# Altium integrated library MC Alarm.IntLib: 25 symbols
Pins are listed as number, name and electrical type; pins without a type are passive.

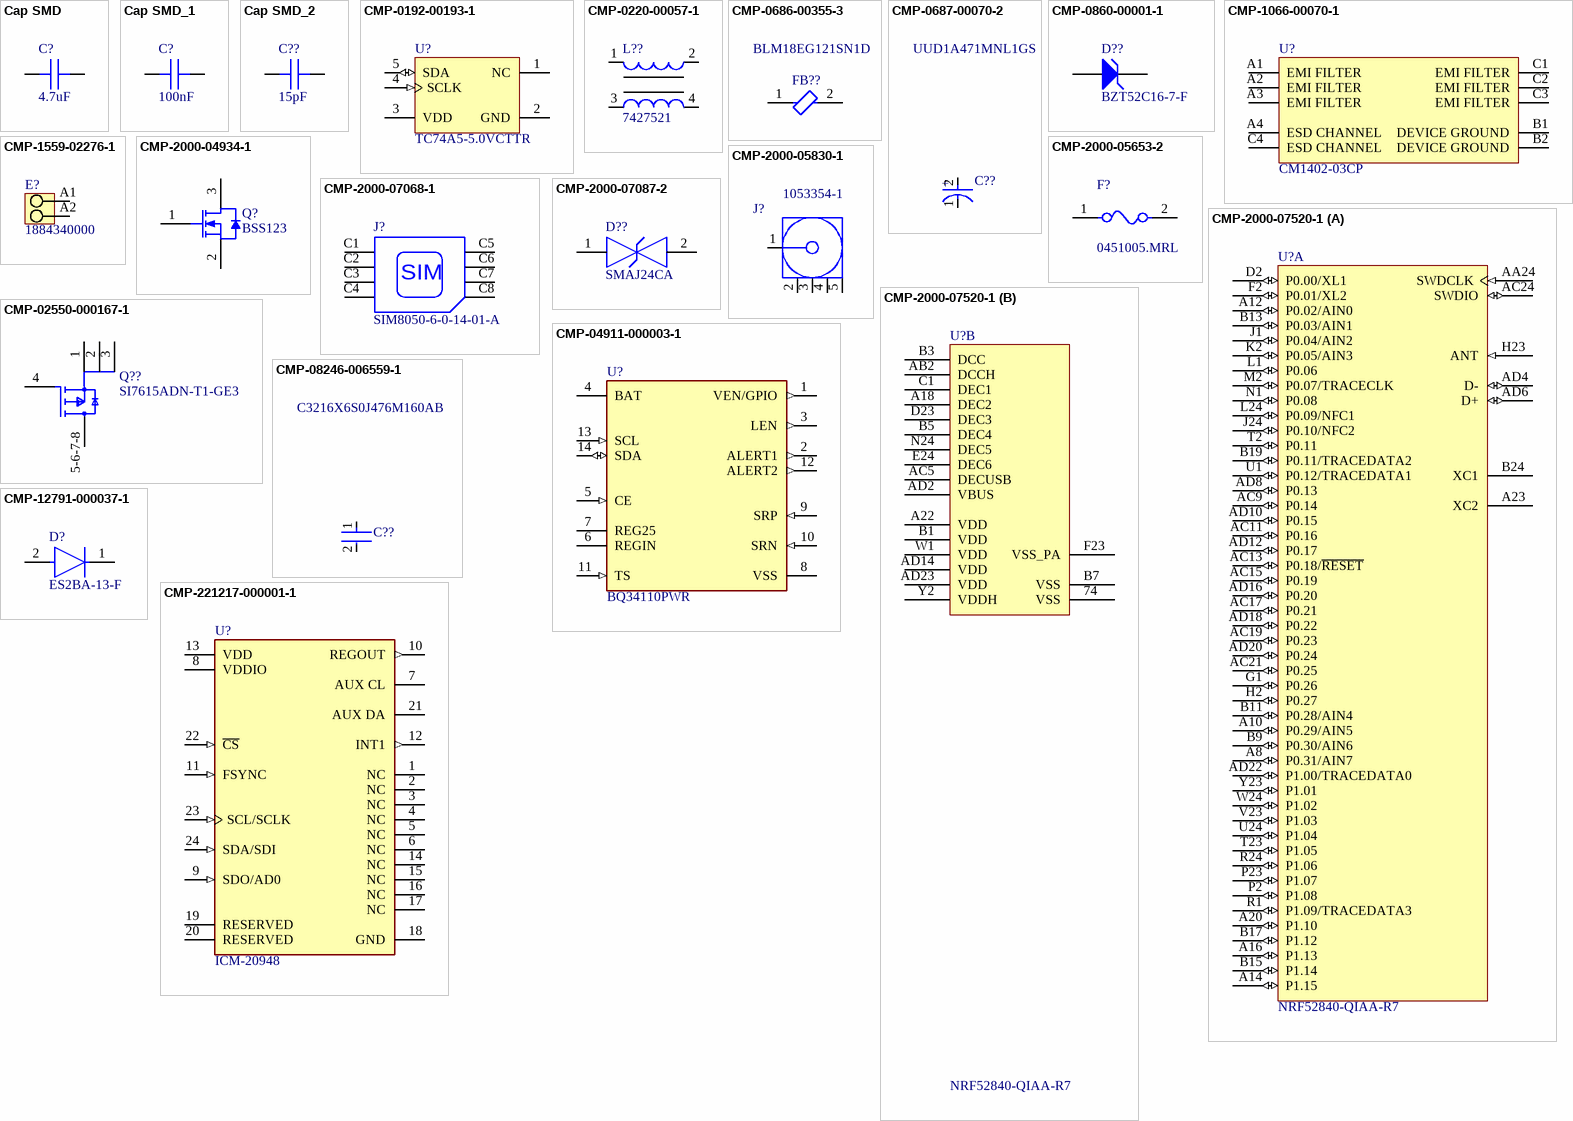
[diagram p0: symbols Cap SMD to CMP-221217-000001-1]

## Cap SMD
designator C?  value 4.7uF  (hidden comment: Cap SMD)
footprint C0603 (1608) (Chip Capacitor, 2-Leads, Body 1,60x0,81mm, IPC Low Density)
pins: 1 (power) "Output", 2 (power) "Output"

## Cap SMD_1
designator C?, comment 100nF
Value: 100nF
footprint C0603 (1608) (Chip Capacitor, 2-Leads, Body 1,60x0,81mm, IPC Low Density)
pins: 1 (power) "Output", 2 (power) "Output"

## Cap SMD_2
designator C??, comment 15pF
Value: 15pF
footprint C0603 (1608) (Chip Capacitor, 2-Leads, Body 1,60x0,81mm, IPC Low Density)
pins: 1 (power) "Output", 2 (power) "Output"

## CMP-0192-00193-1
designator U?, comment TC74A5-5.0VCTTR
Tiny Serial Digital Thermal Sensor, 5-Pin SOT-23, Extended Temperature, Tape and Reel; Manufacturer: Microchip; PackageDescription: 5-Lead Plastic Small Outline Transistor (CT) [SOT-23]; PackageReference: SOT-23-CT5; PackageVersion: revBB, Aug-2009; Code_IPC: SOT23-5; DatasheetVersion: revC, Oct-2002; Manufacturer Part Number: TC74A5-5.0VCTTR
footprint SOT-23-CT5_N (SOT23, 5-Leads, Body 2.9x1.6mm, Pitch 0.95mm, Lead Span 2.7mm, IPC Medium Density)
footprint SOT-23-CT5_L (SOT23, 5-Leads, Body 2.9x1.6mm, Pitch 0.95mm, Lead Span 2.7mm, IPC High Density)
footprint SOT-23-CT5_M (SOT23, 5-Leads, Body 2.9x1.6mm, Pitch 0.95mm, Lead Span 2.7mm, IPC Low Density)
pins: 1 NC, 2 GND (power), 3 VDD (power), 4 SCLK (in), 5 SDA (io)

## CMP-0220-00057-1
designator L??, comment 7427521
Common Mode SMD Bead WE-CMS, Z = 52 Ohm; Manufacturer: Wurth Electronics; Impedance: 52 Ohm; PackageReference: WE-CMS; PackageVersion: 2010; ComponentLink1URL: http://www.we-online.com; PackageDescription: Inductor, 4-Leads, Body 8.5 x 5.6 mm; ComponentLink2Description: Datasheet; ComponentLink2URL: http://www.we-online.de/katalog/media/pdf/7427521.pdf; DatasheetVersion: ver 8, Jul-2010; ComponentLink1Description: Manufacturer Link; Manufacturer Part Number: 7427521
footprint WE-CMS (Inductor, 4-Leads, Body 8.5x5.6x3.2 mm)
pins: 1, 2, 3, 4

## CMP-0686-00355-3
designator FB??, comment BLM18EG121SN1D
FERRITE BEAD 120 OHM 0603 1LN; Manufacturer: Murata; Tolerance: 25%; Rms Current: 2000mA; Impedance At Frequency: 120Ω @ 100MHz; Series Resistance: 0.06Ω; Manufacturer Part Number: BLM18EG121SN1D; Lead Free: Yes; RoHS: TRUE; ComponentLink2URL: https://www.murata.com/en-us/products/productdata/8796747366430/ENFA0021.pdf; Octopart: https://octopart.com/blm18eg121sn1d-murata-368362; Core Material: Ferrite; Device Class L1: Passive Components; Device Class L3: Ferrite Beads and Chips; Mouser Description: Ferrite Beads 120ohms GHz General Usage; Digikey Description: FERRITE BEAD 120 OHM 0603 1LN; ComponentLink2Description: Datasheet; Package: 0603; Category: FBead; Height: 0.95mm; Temperature Range Low: -55°C; Temperature Range High: +125°C; Automotive: No; Device Class L2: EMI / RFI Components; Temperature: -55°C to +125°C; Ipc Land Pattern Name: CAPC16080X80
footprint FP-BLM18EG121SN1D-MFG
footprint FP-BLM18EG121SN1D-IPC_C
footprint FP-BLM18EG121SN1D-IPC_B
footprint FP-BLM18EG121SN1D-IPC_A
pins: 1, 2

## CMP-0687-00070-2
designator C??, comment UUD1A471MNL1GS
CAP ALUM 470UF 20% 10V SMD; Manufacturer: Nichicon; Leakage Current: 3uA; Lead Diameter: 1.1mm; Ripple Current: 450mA; Dissipation Factor: 0.24%; Life (Hours): 5000Hour; Dielectric Material: Aluminium; Impedance: 170mR; Voltage Rating: 10V; Height - Seated (Max): 0.394inch; Packaging: Tape and Reel; Voltage Rating (DC): 10V; Package Quantity: 500; Radiation Hardening: No; Capacitance: 470uF; Min Operating Temperature: -55°C; Max Operating Temperature: 105°C; REACH SVHC: No SVHC; Tolerance: 20%; Termination: SMD/SMT; Lead Free: Lead Free; Diameter: 8mm; Case/Package: Radial; Length: 10mm; Voltage: 10V; Ripple Current (AC): 450mA; Height: 10mm; Lead Pitch: 3.1mm; Number of Pins: 2; Manufacturer Part Number: UUD1A471MNL1GS
footprint FP-UUD1A471MNL1GS-MFG
pins: 1 C, 2 A
text: +

## CMP-0860-00001-1
designator D??, comment BZT52C16-7-F
Surface Mount Zener Diode, 16 V, -65 to 125 degC, SOD123, RoHS, Tape and Reel; Manufacturer: Diodes Inc; Manufacturer: Diodes; Maximum Reverse Current: 0.1 uA; Tol V: 5.56% Typ.; Maximum Zener Impedance f: 1 kHz ZZK=200 Ohm; Voltage Zener: 16 V Typ.; Power Max: 500 mW; ComponentLink2URL: http://www.diodes.com/datasheets/ds18004.pdf; PackageDescription: 2-Pin SOD123, Body 2.7 x 1.55 mm, Height 1.45 mm; ComponentLink3Description: Package Specification; Mounting Technology: Surface Mount; PackageReference: SOD123; ComponentLink2Description: Datasheet; RoHS: TRUE; ComponentLink3URL: http://www.diodes.com/datasheets/ap02002.pdf; Operating Temperature: -65 to 150 degC; DatasheetVersion: Rev. 37-2; Packing: Tape and Reel; ComponentLink1Description: Manufacturer URL; ComponentLink1URL: http://www.diodes.com/; PackageVersion: Rev. 79; PartNumber: BZT52C16-7-F; Manufacturer Part Number: BZT52C16-7-F
footprint DIOD-SOD123-2_V (SOD123, 2-Leads, Body 2.7x1.55mm, Height 1.45mm)
pins: 1 A, 2 K

## CMP-1066-00070-1
designator U?, comment CM1402-03CP
SIM Card EMI Filter Array with ESD Protection, -40 to 85 degC, 10-Pin WLCSP, Pb-Free, Tape and Reel; Manufacturer: On Semiconductor; C Typ (pF): 20; Number of Lines: 4; ComponentLink3Description: Package Specification; PackageDescription: 10-Ball Wafer Level Chip Scale Package, Body 1.96 x 1.33 mm; PartNumber: CM1402-03CP; ComponentLink1URL: http://www.onsemi.com/; PackageReference: WLCSP-10-567BL-01; ComponentLink1Description: Manufacturer URL; RoHS: Pb-Free; Mounting Technology: Surface Mount; ComponentLink3URL: http://www.onsemi.com/pub_link/Collateral/567BL.PDF; ComponentLink2URL: http://www.onsemi.com/pub_link/Collateral/CM1402-D.PDF; PackageVersion: Rev. O, 07/2010; Packing: Tape and Reel; DatasheetVersion: Rev. 4; ComponentLink2Description: Datasheet; Manufacturer: ON Semiconductor; Manufacturer Part Number: CM1402-03CP
footprint ONSC-WLCSP-10-567BL-01 (BGA, 10-Balls, Body 1.96x1.33mm)
pins: A1 EMI FILTER "EMI Filter with ESD Protection for RST Signal", A2 EMI FILTER "EMI Filter with ESD Protection for CLK Signal", A3 EMI FILTER "EMI Filter with ESD Protection for DAT Signal", A4 ESD CHANNEL (power) "ESD Protection Channel - VCC Supply", B1 DEVICE GROUND (power) "Device Ground", B2 DEVICE GROUND (power) "Device Ground", C1 EMI FILTER "EMI Filter with ESD Protection for RST Signal", C2 EMI FILTER "EMI Filter with ESD Protection for CLK Signal", C3 EMI FILTER "EMI Filter with ESD Protection for DAT Signal", C4 ESD CHANNEL "ESD Protection Channel"

## CMP-1559-02276-1
designator E?, comment 1884340000
OMNIMATE Signal - series LSF; Manufacturer: Weidmueller; Manufacturer: Weidmuller; Rated_voltage_for_surge_voltage_class_pollution_degree_II_2: 500 V; Pitch_mm: 5 mm; Wire_cross_section_AWG_min_UL_1059: AWG 24; Insulating_material: LCP GF; Rated_voltage_use_group_B_UL_1059: 300 V; Rated_current_use_group_B_UL_1059: 12 A; Mounting_onto_the_PCB: Reflow solder connection; Contact_material: Cu-Leg; Short_text_for_material: LSF-SMT 5.00/02/135 3.5SN BK TU; No_of_poles: 2; UL_94_flammability_rating: V-0; Solid_min_H05_07_V_U: 0,2 mm²; Contact_surface: tinned; Side_termination_characteristic: closed side; Wire_cross_section_AWG_max_UL_1059: AWG 16; Solder_pin_length_mm: 3,5 mm; Pitch_inch: 0,197 inch; Solid_max_H05_07_V_U: 1,5 mm²; Rated_current_min_no_of_poles_TU_20_deg_C: 19 A; Packaging: Tube; ComponentLink1URL: http://www.weidmueller.com/; ComponentLink2URL: http://catalog.weidmueller.com/catalog/Start.do?localeId=en&ObjectID=1884340000; PackageReference: LSF_SMT_5_00_135_02; PartNumber: 1884340000; ComponentLink1Description: Manufacturer URL; Qty: 60 PCS; Colour: Black; Revision: V1; ComponentLink2Description: URL Link1; Manufacturer Part Number: 1884340000
footprint LSF_SMT_5_00_135_02 (OMNIMATE Signal - Serie LSF  LSF-SMT 5.00/02/135 3.5)
pins: A1, A2
1 alternate drawing of the same symbol

## CMP-2000-04934-1
designator Q?, comment BSS123
N-Channel Logic Level Enhancement Mode Field Effect Transistor, 1.7 V, -55 to 150 degC, 3-Pin SOT-23, RoHS, Tape and Reel; Manufacturer: Fairchild; Manufacturer: ON Semiconductor / Fairchild; Channel Type: N; Typical Turn-Off Delay Time: 17ns; Maximum Continuous Drain Current: 0.17A; Rad Hard: No; Typical Rise Time: 9ns; Typical Fall Time: 2.4ns; Maximum Gate Source Voltage: ±20V; Maximum Drain Source Voltage: 100V; Typical Turn-On Delay Time: 1.7ns; RDS-on: 6000@10VmOhm; Package Version: Rev. 12, 03/2016; Packaging: Tape&Reel; Package Reference: SOT23-3; Channel Mode: Enhancement; Operating Temperature: -55to150degC; Package Description: 3-Pin Small Outline Transistor, Body 2.92 x 1.325 mm, Pitch 0.95 mm; Category: MOSFET; Datasheet Version: Jun-03; Datasheet URL: https://www.fairchildsemi.com/datasheets/BS/BSS123.pdf; Manufacturer URL: https://www.fairchildsemi.com/; Mounting: SurfaceMount; Package: 3SOT-23; Package URL: http://www.fairchildsemi.com/dwg/MA/MA03D.pdf; Manufacturer Part Number: BSS123
footprint FAIR-SOT23-3_V (SOT23, 3-Leads, Body 2.92x1.3mm, Pitch 0.95mm)
pins: 1 G, 2 S, 3 D

## CMP-2000-05653-2
designator F?, comment 0451005.MRL
FUSE BRD MNT 5A 125VAC/VDC 2SMD; Manufacturer: Littelfuse Inc; Manufacturer: Littelfuse; Fuse Blow Speed: Fast; Voltage Rating: 125V; Fuse Interrupt Ac Current: 50A; Value: 0.0125Ω; Fuse I2T: 5.566A2Sec; Device Class L3: unset; Temperature Range Low: -55°C; Height: 2.94mm; Category: Fuse; Fuse Current: 5A; Octopart: https://octopart.com/0451005.mrl-littelfuse-566389; Package: 0451; RoHS: TRUE; Manufacturer Part Number: 0451005.MRL; Mouser Description: Surface Mount Fuses 125V 5A; Device Class L2: Fuses; ComponentLink2URL: https://www.littelfuse.com/~/media/electronics/datasheets/fuses/littelfuse_fuse_451_453_datasheet.pdf.pdf; Temperature Range High: +125°C; Digikey Description: FUSE BRD MNT 5A 125VAC/VDC 2SMD; Device Class L1: Circuit Protection; Automotive: No; Fuse Interrupt Dc Current: 50A; Temperature: -55°C to +125°C; Max Fuse Dc Voltage: 125V; Resistance: 0.0125Ω; ComponentLink2Description: Datasheet; Max Fuse Ac Voltage: 125V; Lead Free: Yes
footprint FP-0451-MFG
pins: 1, 2

## CMP-2000-05830-1
designator J?, comment 1053354-1
Female Coaxial Connector, Pitch 2.55 mm, Height 9.5 mm, Tail Length 3.9 mm, RoHS, Bulk; Manufacturer: TE Connectivity; Dynamic Catalog: SMA; Impedance: 50Ohm; Contact Termination: Solder; Connector Type: Jack,FemaleSockets; 3D Model: 1053354-1.pdf; Other Names: 2062000000 / A30046; Datasheet Version: Rev. B, 05/2011; Package Reference: 1053354-1; RoHS Information: 1053354-1StatementofCompliance; Series: SMA; Connector Style: SMA; Family: CoaxialConnectors(RF); Category: Connectors,Interconnects; Fastening Type: Threaded; Standard Package: 125; Mounting Type: ThroughHole; Packaging: Bulk; Datasheet URL: http://www.te.com/commerce/DocumentDelivery/DDEController?Action=srchrtrv&DocNm=1053354&DocType=Customer+Drawing&DocLang=English; Mounting Technology: ThroughHole; Manufacturer URL: http://www.te.com/; Package Description: Female Coaxial Connector, Pitch 2.55 mm, Height 9.5 mm, Tail Length 3.9 mm; Manufacturer Part Number: 1053354-1
footprint TECO-1053354-1_V (THD, 5-Leads, Body 6.3x6.3mm, Pitch 2.55mm)
pins: 1, 2, 3, 4, 5

## CMP-2000-07068-1
designator J?, comment SIM8050-6-0-14-01-A
Nano SIM Card Connect Push-Pull Type, Profile Height 1.35 mm, 30 V Max, 0.5 A Max, -40 to 85 degC, 6-Pin SMT, RoHS, Tape and Reel; Manufacturer: Global Connector Technology; Pitch: 1.45mm; No of Positions: 6; Style/Orientation: Receptacle; Package Description: 6-Pin Surface Mount Device, Body 12.2 x 9.54 mm, Pitch 2.54 mm; Manufacturer URL: http://gct.co/; Datasheet Version: Rev. E, 09/2015; Datasheet URL: http://gct.co/sim-connectors/pdf/SIM8050.pdf; Type: Contact; Mounting Technology: SurfaceMount; Termination: PushPull; Package Reference: SIM8050-6-0-14-01-A; Manufacturer Part Number: SIM8050-6-0-14-01-A
footprint GCT-SIM8050-6_V (SMT, 6-Leads, Body 12.2x9.54mm, Pitch 2.54mm)
pins: C1 VCC (power), C2 RST, C3 CLK, C4 SHLD, C5 GND (power), C6 VPP (power), C7 I/O, C8 SHLD
text: SIM

## CMP-2000-07087-2
designator D??, comment SMAJ24CA
TVS DIODE 24V 38.9V DO214AC; Manufacturer: Littelfuse; Peak Pulse Power: 400W; Direction: Bidirectional; Breakdown Voltage: 26.7V; Max Junction Temp: +150°C; Number Of Channels: 1; Peak Pulse Current: 10.3A; Digikey Description: TVS DIODE 24V 38.9V DO214AC; Temperature Range Low: -65°C; Temperature: -65°C to +150°C; Manufacturer Part Number: SMAJ24CA; Octopart: https://octopart.com/smaj24ca-littelfuse-350011; Height: 2.29mm; Clamping Voltage: 38.9V; Device Class L1: Circuit Protection; Automotive: No; Device Class L2: TVS Diodes; Package: SMAJ-CA; ComponentLink2URL: https://www.littelfuse.com/~/media/electronics/datasheets/tvs_diodes/littelfuse_tvs_diode_smaj_datasheet.pdf.pdf; RoHS: TRUE; Temperature Range High: +150°C; Category: Diode; Lead Free: Yes; Reverse Standoff Voltage: 24V; Device Class L3: unset; ComponentLink2Description: Datasheet; Mouser Description: In a Pack of 25, Littelfuse SMAJ24CA, Bi-Directional TVS Diode, 400W, 2-Pin DO-214AC
footprint FP-SMAJ-CA-MFG
pins: 1, 2

## CMP-2000-07520-1
designator U?, comment NRF52840-QIAA-R7
RF System on a Chip, 1.7 to 3.6 V, -40 to 85 degC, 73-Pin AQFN, RoHS, Tape and Reel; Manufacturer: Nordic Semiconductor; Package Description: 73-Pin Array Quad Flat No-lead Package, Body 7 x 7 mm, Pitch 0.5 mm; Datasheet Version: Rev. 0.5.1, 07/2017; RoHSCompliant: false; Mounting Technology: SurfaceMount; Manufacturer URL: http://www.nordicsemi.com/eng/Products/; Datasheet URL: http://infocenter.nordicsemi.com/pdf/nRF52840_OPS_v0.5.1.pdf; Package Reference: AQFN; Manufacturer Part Number: NRF52840-QIAA-R7
footprint NRSC-AQFN-73 (AQFN, 73-Leads, Body 7x7mm, Pitch 0.5mm)
part A pins: A8 P0.31/AIN7 (io), A10 P0.29/AIN5 (io), A12 P0.02/AIN0 (io), A14 P1.15 (io) "General purpose I/O", A16 P1.13 (io) "General purpose I/O", A20 P1.10 (io) "General purpose I/O", A23 XC2 "Connection for 32 MHz crystal.", AA24 SWDCLK (in) "Serial wire debug clock input for debug and programming", AC9 P0.14 (io) "General purpose I/O", AC11 P0.16 (io) "General purpose I/O", AC13 P0.18/~{RESET} (io), AC15 P0.19 (io) "General purpose I/O", AC17 P0.21 (io) "General purpose I/O", AC19 P0.23 (io) "General purpose I/O", AC21 P0.25 (io) "General purpose I/O", AC24 SWDIO (io) "Debug serial data", AD4 D- (io) "USB D-", AD6 D+ (io) "USB D+", AD8 P0.13 (io) "General purpose I/O", AD10 P0.15 (io) "General purpose I/O", AD12 P0.17 (io) "General purpose I/O", AD16 P0.20 (io) "General purpose I/O", AD18 P0.22 (io) "General purpose I/O", AD20 P0.24 (io) "General purpose I/O", AD22 P1.00/TRACEDATA0 (io), B9 P0.30/AIN6 (io), B11 P0.28/AIN4 (io), B13 P0.03/AIN1 (io), B15 P1.14 (io) "General purpose I/O", B17 P1.12 (io) "General purpose I/O", B19 P0.11/TRACEDATA2 (io), B24 XC1 "Connection for 32 MHz crystal", D2 P0.00/XL1 (io), F2 P0.01/XL2 (io), G1 P0.26 (io) "General purpose I/O", H2 P0.27 (io) "General purpose I/O", H23 ANT (in) "Single-ended radio antenna connection", J1 P0.04/AIN2 (io), J24 P0.10/NFC2 (io), K2 P0.05/AIN3 (io), L1 P0.06 (io) "General purpose I/O", L24 P0.09/NFC1 (io), M2 P0.07/TRACECLK (io), N1 P0.08 (io) "General purpose I/O", P2 P1.08 (io) "General purpose I/O", P23 P1.07 (io) "General purpose I/O", R1 P1.09/TRACEDATA3 (io), R24 P1.06 (io) "General purpose I/O", T2 P0.11 (io) "General purpose I/O", T23 P1.05 (io) "General purpose I/O", U1 P0.12/TRACEDATA1 (io), U24 P1.04 (io) "General purpose I/O", V23 P1.03 (io) "General purpose I/O", W24 P1.02 (io) "General purpose I/O", Y23 P1.01 (io) "General purpose I/O"
part B pins: 74 VSS (power) "Ground pad. Exposed die pad must be connected to ground (VSS) for proper device operation.", A18 DEC2 (power) "1.3 V regulator supply decoupling (Radio supply)", A22 VDD (power) "Power supply", AB2 DCCH (power) "DC/DC converter output", AC5 DECUSB (power) "Decoupling for USB 3.3 V", AD2 VBUS (power) "5 V input for USB 3.3 V regulator", AD14 VDD (power) "Power supply", AD23 VDD (power) "Flash supply pad", B1 VDD (power) "Power supply", B3 DCC (power) "DC/DC converter output", B5 DEC4 (power) "1.3 V regulator supply decoupling", B7 VSS (power) "Ground", C1 DEC1 (power) "1.1 V regulator supply decoupling", D23 DEC3 (power) "Power supply, decoupling", E24 DEC6 (power) "1.3 V regulator supply decoupling (Radio supply)", F23 VSS_PA (power) "Ground (Radio supply)", N24 DEC5 (power) "1.3 V regulator supply decoupling (flash supply)", W1 VDD (power) "Power supply", Y2 VDDH (power) "High voltage power supply"

## CMP-02550-000167-1
designator Q??, comment SI7615ADN-T1-GE3
MOSFET P-CH 20V 35A 1212-8S; Manufacturer: Vishay; Manufacturer: Vishay Siliconix; Gate Charge At Vgs: 122nC @ -10V; Max Forward Diode Voltage: -1.1V; Continuous Drain Current: -22.1A; Gate To Source Voltage: 12V; Number Of P Channels: 1; Pulse Drain Current: -80A; Threshold Vgs Max: -1.5V; Drain To Source Voltage: -20V; Reverse Recovery Time: 27ns; Depletion Mode: False; Reverse Recovery Charge: 11nC; Power Dissipation: 3.7W; Rthja Max: 33°C/W; Typ Forward Diode Voltage: -0.72V; Standoff Height: 0mm; Input Capacitace At Vds: 5590pF @ -10V; Turn On Delay Time: 13ns; Turn Off Delay Time: 85ns; Max Junction Temp: +150°C; Transconductance: 82S; Threshold Vgs Min: -0.4V; Drain To Source Resistance: 0.0035Ω; Manufacturer Part Number: SI7615ADN-T1-GE3; Package: S16-2667_SINGLE; Height: 1.12mm; Automotive: No; Device Class L3: MOSFETs; Device Class L1: Discrete Semiconductors; Digikey Description: MOSFET P-CH 20V 35A 1212-8S; Category: Trans; Device Class L2: Transistors; Drain To Source Breakdown Voltage: -20V; Temperature Range High: +150°C; Octopart: https://octopart.com/si7615adn-t1-ge3-vishay-45331111; Number Of Channels: 1; RoHS: TRUE; Temperature: -55°C to +150°C; ComponentLink2URL: http://www.vishay.com/docs/62667/si7615adn.pdf; Temperature Range Low: -55°C; Lead Free: Yes; ComponentLink2Description: Datasheet; Mouser Description: MOSFET -20V 4.4mOhm@10V 35A P-Ch G-III
footprint FP-S16-2667_SINGLE-MFG
pins: 1 S, 2 S, 3 S, 4 G, 5-6-7-8 D

## CMP-04911-000003-1
designator U?, comment BQ34110PWR
IC BATT MON MULTICELL 14TSSOP; Manufacturer: Texas Instruments; Number Of Outputs: 2; Max Junction Temp: +100°C; Max Supply Voltage: 4.5V; Min Supply Voltage: 2.45V; Number Of Cells: 4; Standoff Height: 0.05mm; Nominal Supply Current: 133uA; Package: PW0014A; Temperature Range High: +85°C; Octopart: https://octopart.com/bq34110pwr-texas+instruments-75529711; ComponentLink2URL: https://www.ti.com/lit/ds/symlink/bq34110.pdf; Device Class L1: Integrated Circuits (ICs); Height: 1.2mm; Device Class L3: Battery Management; Temperature Range Low: -40°C; RoHS: TRUE; Digikey Description: IC BATT MON MULTICELL 14TSSOP; Device Class L2: Power Management ICs; Manufacturer Part Number: BQ34110PWR; Lead Free: Yes; ComponentLink2Description: Datasheet; Category: IC; Automotive: No; Mouser Description: Multi-Chemistry High-Cell Count Battery Fuel Gauge With Integrated Rarely Discharged Module 14-TSSOP -40 to 85; Temperature: -40°C to +85°C; Ambient Temperature Range Low: -40°C; Ambient Temperature Range High: +85°C
footprint FP-PW0014A-MFG
footprint FP-PW0014A-IPC_C
footprint FP-PW0014A-IPC_B
footprint FP-PW0014A-IPC_A
pins: 1 VEN/GPIO (out), 2 ALERT1 (out), 3 LEN (out), 4 BAT (power), 5 CE (in), 6 REGIN (oe), 7 REG25 (power), 8 VSS (power), 9 SRP (in), 10 SRN (in), 11 TS (in), 12 ALERT2 (out), 13 SCL (in), 14 SDA (io)

## CMP-08246-006559-1
designator C??, comment C3216X6S0J476M160AB
Multilayer Ceramic Capacitors 47uF ±20% 6.3V X6S SMD 1206; Manufacturer: TDK; Insulation Resistance: 10GR; Dissipation Factor: 10%; Min Operating Temperature: -55°C; Package Quantity: 1; Case Code (Metric): 3216; Capacitance: 47uF; Voltage Rating (DC): 6.3V; Thickness: 0.071inch; REACH SVHC: No SVHC; Dielectric Material: Ceramic; RoHS Compliant: Yes; Case/Package: 1206; Packaging: Tape and Reel; Width: 0.063inch; Weight: 0.000571oz; Radiation Hardening: No; Case Code (Imperial): 1206; Max Operating Temperature: 105°C; Depth: 1.6mm; Mount: Surface Mount; Lead Free: Lead Free; Voltage Rating: 6.3V; Termination: SMD/SMT; Tolerance: 20%; Dielectric: X6S; Series: C; Length: 3.2mm; Construction: Flat; Resistor Type: Ceramic; Height: 1.6mm; Manufacturer Part Number: C3216X6S0J476M160AB
footprint FP-C3216-160-0_2-IPC_C
footprint FP-C3216-160-0_2-IPC_A
footprint FP-C3216-160-0_2-IPC_B
footprint FP-C3216-160-0_2-MFG
pins: 1, 2

## CMP-12791-000037-1
designator D?, comment ES2BA-13-F
DIODE GEN PURP 100V 2A SMA; Manufacturer: Diodes Inc.; Manufacturer: Diodes; Standoff Height: 0.05mm; Value: 25pF; Peak Reverse Current: 5uA; Max Junction Temp: +150°C; Max Surge Forward Current: 50A; Digikey Description: DIODE GEN PURP 100V 2A SMA; Max Repetitive Reverse Voltage: 100V; Mouser Description: ES2BA Series 100 V 2 A Surface Mount Super-Fast Rectifier - DO-214AC; RoHS: TRUE; Device Class L3: Rectifier Diodes; Height: 2.4mm; Footprint Url: https://www.diodes.com/assets/Package-Files/SMA.pdf; Lead Free: Yes; Device Class L1: Discrete Semiconductors; Forward Current: 2A; ComponentLink2Description: Datasheet; Manufacturer Part Number: ES2BA-13-F; Temperature: -55°C to +150°C; Temperature Range Low: -55°C; Automotive: No; Device Class L2: Diodes; Category: Diode; Octopart: https://octopart.com/es2ba-13-f-diodes+inc.-14402013; Package: SMA; Capacitance: 25pF; ComponentLink2URL: https://www.diodes.com/assets/Datasheets/ds14002.pdf; Reverse Voltage: 100V; Temperature Range High: +150°C
footprint FP-SMA-MFG
pins: 1 C, 2 A

## CMP-221217-000001-1
designator U?, comment ICM-20948
IMU ACCEL/GYRO/COMPI2C/SPI 24QFN; Manufacturer: TDK InvenSense; Manufacturer Part Number: ICM-20948
footprint FP-ICM-20948-IPC_C
footprint FP-ICM-20948-IPC_B
footprint FP-ICM-20948-IPC_A
pins: 1 NC, 2 NC, 3 NC, 4 NC, 5 NC, 6 NC, 7 AUX CL, 8 VDDIO (power), 9 SDO/AD0 (in), 10 REGOUT (out), 11 FSYNC (in), 12 INT1 (out), 13 VDD (power), 14 NC, 15 NC, 16 NC, 17 NC, 18 GND (power), 19 RESERVED, 20 RESERVED, 21 AUX DA, 22 ~{CS} (in), 23 SCL/SCLK (in), 24 SDA/SDI (in)

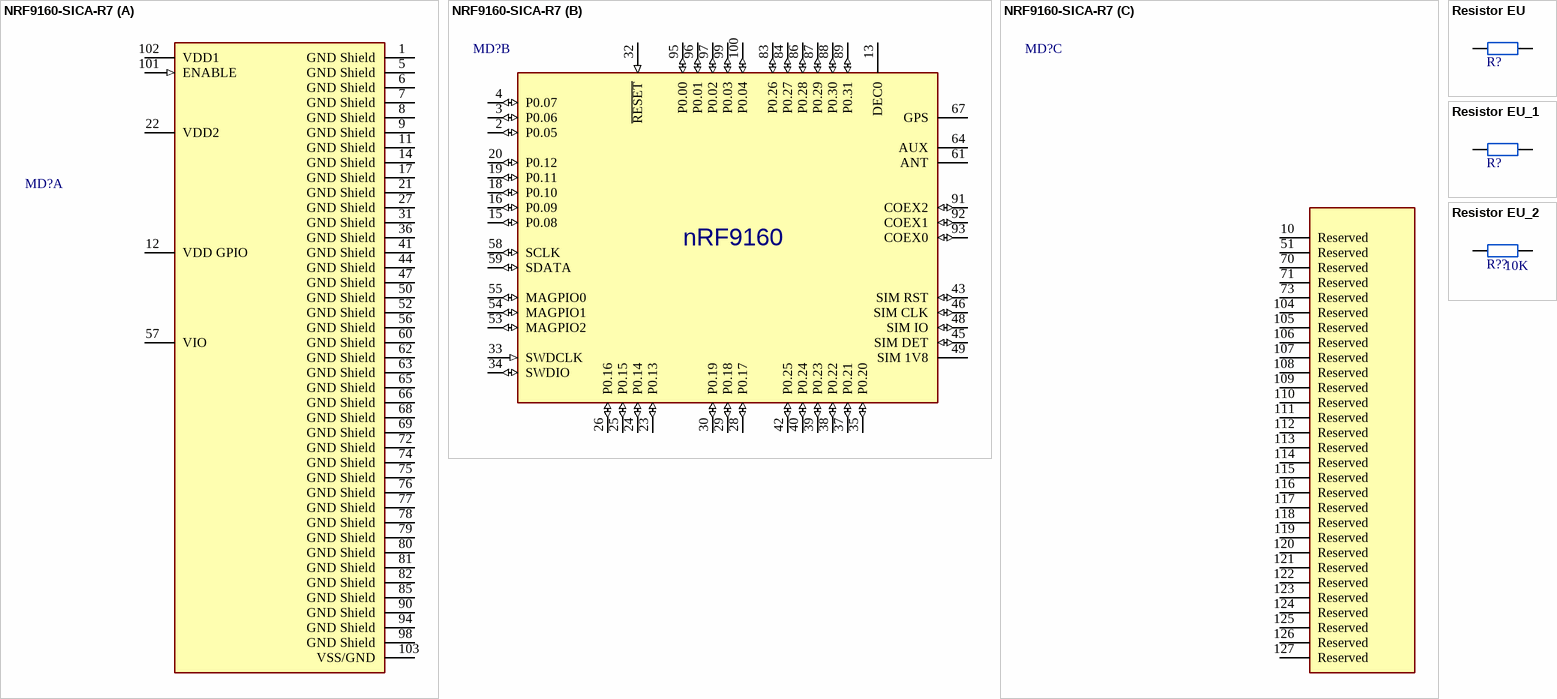
[diagram p1: symbols NRF9160-SICA-R7 to Resistor EU_2]

## NRF9160-SICA-R7
designator MD?  (value not drawn)
footprint Nordic_Semiconductor_ASA_0_MFG
part A pins: 1 GND Shield (power), 5 GND Shield (power), 6 GND Shield (power), 7 GND Shield (power), 8 GND Shield (power), 9 GND Shield (power), 11 GND Shield (power), 12 VDD GPIO (power), 14 GND Shield (power), 17 GND Shield (power), 21 GND Shield (power), 22 VDD2 (power), 27 GND Shield (power), 31 GND Shield (power), 36 GND Shield (power), 41 GND Shield (power), 44 GND Shield (power), 47 GND Shield (power), 50 GND Shield (power), 52 GND Shield (power), 56 GND Shield (power), 57 VIO (power), 60 GND Shield (power), 62 GND Shield (power), 63 GND Shield (power), 65 GND Shield (power), 66 GND Shield (power), 68 GND Shield (power), 69 GND Shield (power), 72 GND Shield (power), 74 GND Shield (power), 75 GND Shield (power), 76 GND Shield (power), 77 GND Shield (power), 78 GND Shield (power), 79 GND Shield (power), 80 GND Shield (power), 81 GND Shield (power), 82 GND Shield (power), 85 GND Shield (power), 90 GND Shield (power), 94 GND Shield (power), 98 GND Shield (power), 101 ENABLE (in) "Enable pin", 102 VDD1 (power), 103 VSS/GND (power)
part B pins: 2 P0.05 (io), 3 P0.06 (io), 4 P0.07 (io), 13 DEC0 (power), 15 P0.08 (io), 16 P0.09 (io), 18 P0.10 (io), 19 P0.11 (io), 20 P0.12 (io), 23 P0.13 (io), 24 P0.14 (io), 25 P0.15 (io), 26 P0.16 (io), 28 P0.17 (io), 29 P0.18 (io), 30 P0.19 (io), 32 ~{RESET} (in), 33 SWDCLK (in), 34 SWDIO (io), 35 P0.20 (io), 37 P0.21 (io), 38 P0.22 (io), 39 P0.23 (io), 40 P0.24 (io), 42 P0.25 (io), 43 SIM RST (io), 45 SIM DET (io), 46 SIM CLK (io), 48 SIM IO (io), 49 SIM 1V8 (power), 53 MAGPIO2 (io), 54 MAGPIO1 (io), 55 MAGPIO0 (io), 58 SCLK (io), 59 SDATA (io), 61 ANT, 64 AUX, 67 GPS, 83 P0.26 (io), 84 P0.27 (io), 86 P0.28 (io), 87 P0.29 (io), 88 P0.30 (io), 89 P0.31 (io), 91 COEX2 (io), 92 COEX1 (io), 93 COEX0 (io), 95 P0.00 (io), 96 P0.01 (io), 97 P0.02 (io), 99 P0.03 (io), 100 P0.04 (io)
part C pins: 10 Reserved, 51 Reserved, 70 Reserved, 71 Reserved, 73 Reserved, 104 Reserved, 105 Reserved, 106 Reserved, 107 Reserved, 108 Reserved, 109 Reserved, 110 Reserved, 111 Reserved, 112 Reserved, 113 Reserved, 114 Reserved, 115 Reserved, 116 Reserved, 117 Reserved, 118 Reserved, 119 Reserved, 120 Reserved, 121 Reserved, 122 Reserved, 123 Reserved, 124 Reserved, 125 Reserved, 126 Reserved, 127 Reserved
part B text: nRF9160

## Resistor EU
designator R?, comment Res  (value not drawn)
footprint R0603 (1608)
pins: 1 (power) "Output", 2 (power) "Output"

## Resistor EU_1
designator R?, comment 1K  (value not drawn)
footprint R0603 (1608)
pins: 1 (power) "Output", 2 (power) "Output"

## Resistor EU_2
designator R??, comment 10K
footprint R0603 (1608)
pins: 1 (power) "Output", 2 (power) "Output"